# Altium footprint library UZOhm_Optical.PcbLib: 23 footprints (part 2 of 2)
Each footprint in its own frame and in the unit in brackets; x right, y up, seen from the top. Pads: shape width x height; smd on the part's side, far side on the other; paste and mask are expansions set on the pad; w line width, h text height; cw(c..) or ccw(c..) is an arc to the next point about the centre after c.
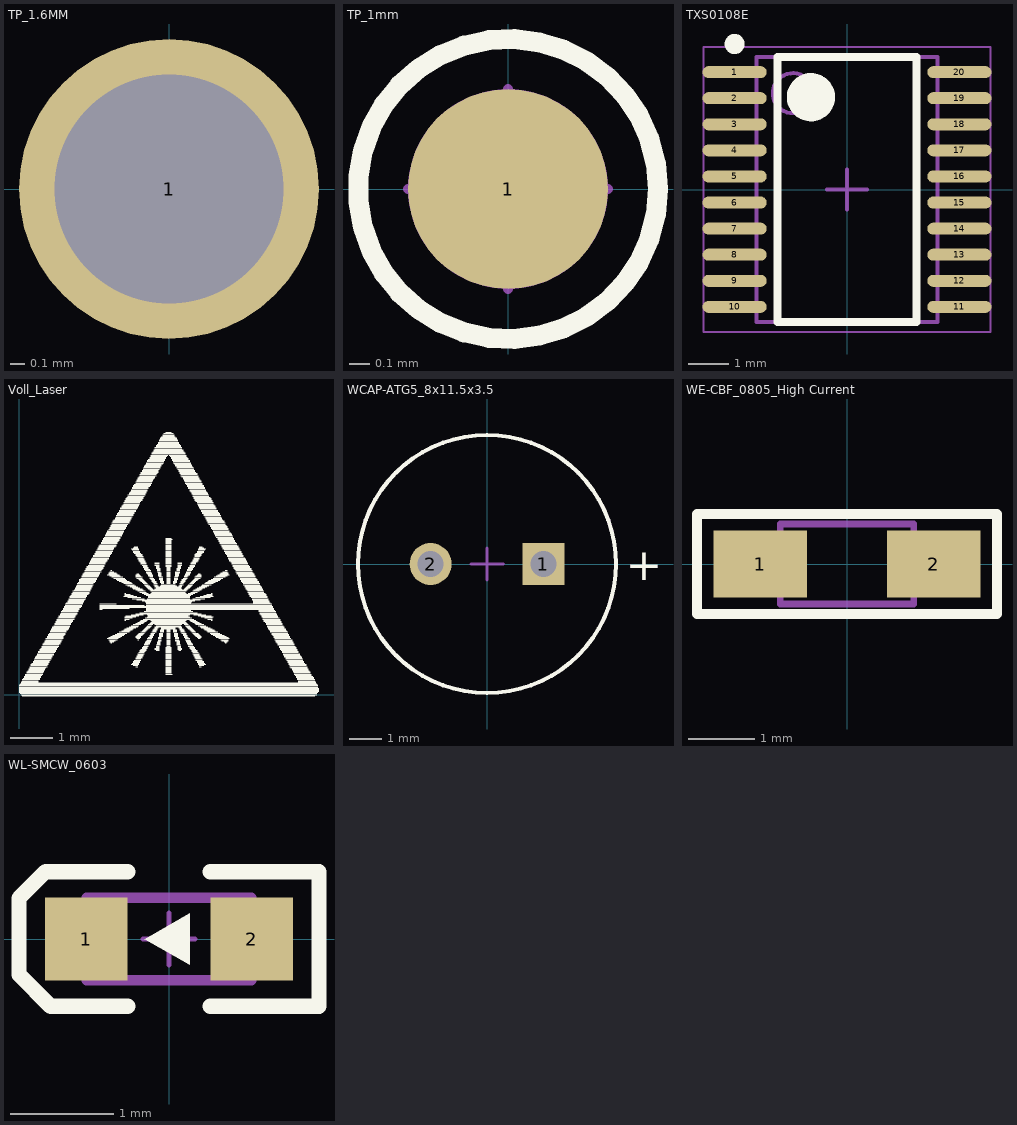
[diagram p1: the footprints below, top view; thin cyan lines are the x and y axes]

## TP_1.6MM [mm] "TP 1.6mm Through Hole"
height 8.1
pads (1):
  round 2.1 hole 1.6: 1(0,0)
Top Overlay:
  text ".Comment" at 1.27,-0.889 h1.27

## TP_1mm [mm]
pads (1):
  round 1 smd paste-1: 1(0,0)
Top Overlay:
  circle w0.1: c0,0 r0.75
  text ".Comment" at 1.2,-0.7 h1.52
Mechanical 5:
  circle w0.6: c0,0 r0.2
  text ".Designator" at 0.025,-1.321 h1.02
Mechanical 15:
  circle w0.05: c0,0 r0.75
  lines w0.05: -0.5,0 0.5,0 ; 0,-0.5 0,0.5

## TXS0108E [mm]
height 1.2
pads (20):
  oval 1.6x0.3 smd: 1(-2.8,2.925) 2(-2.8,2.275) 3(-2.8,1.625) 4(-2.8,0.975) 5(-2.8,0.325) 6(-2.8,-0.325) 7(-2.8,-0.975) 8(-2.8,-1.625) 9(-2.8,-2.275) 10(-2.8,-2.925) 11(2.8,-2.925) 12(2.8,-2.275) 13(2.8,-1.625) 14(2.8,-0.975) 15(2.8,-0.325) 16(2.8,0.325) 17(2.8,0.975) 18(2.8,1.625) 19(2.8,2.275) 20(2.8,2.925)
Top Overlay:
  circle w0.25: c-2.8,3.625 r0.125
  circle w0.6: c-0.9,2.3 r0.3
  lines w0.2: -1.727,-3.3 -1.727,3.3 1.727,3.3 1.727,-3.3 -1.727,-3.3
Mechanical 5:
  circle w0.1: c-1.35,2.4 r0.5
  lines w0.1: -2.25,-3.3 -2.25,3.3 2.25,3.3 2.25,-3.3 -2.25,-3.3
  text ".Designator" at -5.69,-0.787 h1.02
Mechanical 15:
  lines w0.05: -3.575,-3.55 -3.575,3.55 3.575,3.55 3.575,-3.55 -3.575,-3.55
  lines w0.1: -0.5,0 0.5,0 ; 0,-0.5 0,0.5
3D body: height 1.2, standoff 0.05, extent -2.25,-3.3 2.25,3.3

## Voll_Laser [mm]
Top Overlay:
  drawing of 980 lines, arcs and shapes, not listed

## WCAP-ATG5_8x11.5x3.5 [mm] "Aluminum Electrolytic Capacitors, 8x11.5mm"
height 11.5
pads (2):
  rect 1.3x1.3 hole 0.8: 1(1.75,0)
  round 1.3 hole 0.8: 2(-1.75,0)
Top Overlay:
  circle w0.127: c0,0 r4
  text "+" at 4.3,-0.5 h1
Mechanical 5:
  circle w0.1: c0,0 r4
  text ".Designator" at -1.016,4.191 h1.02
Mechanical 15:
  lines w0.1: -0.5,0 0.5,0 ; 0,-0.5 0,0.5
3D body "8x11.5x3.5x0.5.stp": height 11.81, standoff -19.91, extent -3.99,-4 4,3.999

## WE-CBF_0805_High Current [mm] "SMD EMI Suppression Ferrite  Bead, body 2.0mmx1.2mm"
height 0.9
pads (2):
  rect 1.4x1 smd: 1(-1.3,0) 2(1.3,0)
Top Overlay:
  lines w0.15: -2.25,-0.75 -2.25,0.75 2.25,0.75 2.25,-0.75 -2.25,-0.75
Mechanical 5:
  lines w0.1: -1,-0.6 1,-0.6 1,0.6 -1,0.6 -1,-0.6
  text ".Designator" at -5.359,-0.889 h1.02
3D body "WE-CBF_0805_CBF.stp": height 0.93, standoff 0.03, extent -1,-0.6 1,0.6

## WL-SMCW_0603 [mm] "SMD Mono-color Chip LED, body 1.6x0.8mm"
height 0.7
pads (2):
  rect 0.8x0.8 smd: 1(-0.8,0) 2(0.8,0)
Top Overlay:
  region: -0.233,0 0.2,-0.25 0.2,0.25
  lines w0.15: -0.4,-0.654 -1.146,-0.654 -1.454,-0.346 -1.454,0.396 -1.196,0.654 -0.4,0.654 ; 0.4,-0.654 1.454,-0.654 1.454,0.654 0.4,0.654
Mechanical 5:
  lines w0.1: -0.8,-0.4 -0.8,0.4 0.8,0.4 0.8,-0.4 -0.8,-0.4
  text ".Designator" at -5.334,-0.864 h1.02
Mechanical 15:
  lines w0.05: -0.25,0 0.25,0 ; 0,-0.25 0,0.25
3D body "WL-SMCW_0603_LED.stp": height 0.7, standoff 0, extent -0.8,-0.4 0.8,0.4